# EAGLE library part MC74HC4052ADTR2G (library Deegou_IC)
Source: Datasheet <http://www.onsemi.com/pub/Collateral/MC74HC4051A-D.PDF>
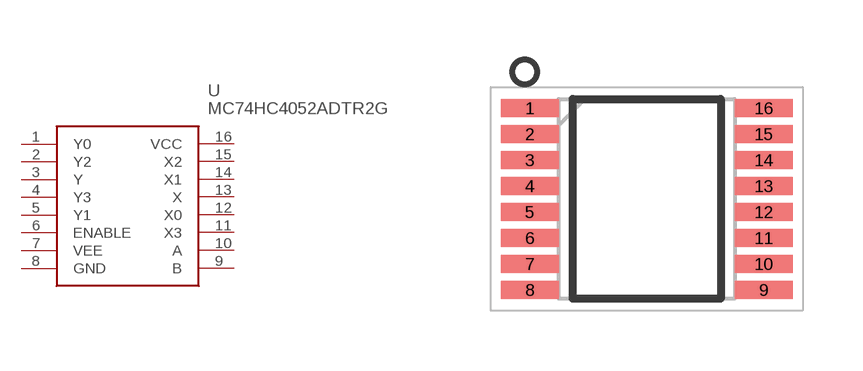
[diagram p45: symbol with the pads of SOP65P640X120-16N; footprint SOP65P640X120-16N]

Designator prefix U

## MC74HC4052ADTR2G (ALLIED_NUMBER: 70466412; ALLIED_PRICE-STOCK: http://www.alliedelec.com/on-semiconductor-mc74hc4052adtr2g/70466412/; ARROW_PART_NUMBER: MC74HC4052ADTR2G; ARROW_PRICE-STOCK: https://www.arrow.com/en/products/mc74hc4052adtr2g/on-semiconductor; HEIGHT: 1.2mm; MANUFACTURER_NAME: ON Semiconductor; MANUFACTURER_PART_NUMBER: MC74HC4052ADTR2G; RS_PART_NUMBER: 8080105P; RS_PRICE-STOCK: http://uk.rs-online.com/web/p/products/8080105P)  [SOP65P640X120-16N]
1  Y0
2  Y2
3  Y
4  Y3
5  Y1
6  ENABLE
7  VEE
8  GND  pwr
9  B
10  A
11  X3
12  X0
13  X
14  X1
15  X2
16  VCC  pwr

## Footprint SOP65P640X120-16N (pad centres in mm)
TSSOP-16 CASE 948F ISSUE B
smd 1.45 x 0.45: 1 -2.925,2.275; 2 -2.925,1.625; 3 -2.925,0.975; 4 -2.925,0.325; 5 -2.925,-0.325; 6 -2.925,-0.975; 7 -2.925,-1.625; 8 -2.925,-2.275; 9 2.925,-2.275; 10 2.925,-1.625; 11 2.925,-0.975; 12 2.925,-0.325; 13 2.925,0.325; 14 2.925,0.975; 15 2.925,1.625; 16 2.925,2.275